# Altium schematic symbol library SCH - MCU - TI - TI MSPM0G110X WCSP-28 YCJ.SchLib: 1 symbol
Pins are listed as number, name and electrical type; pins without a type are passive.

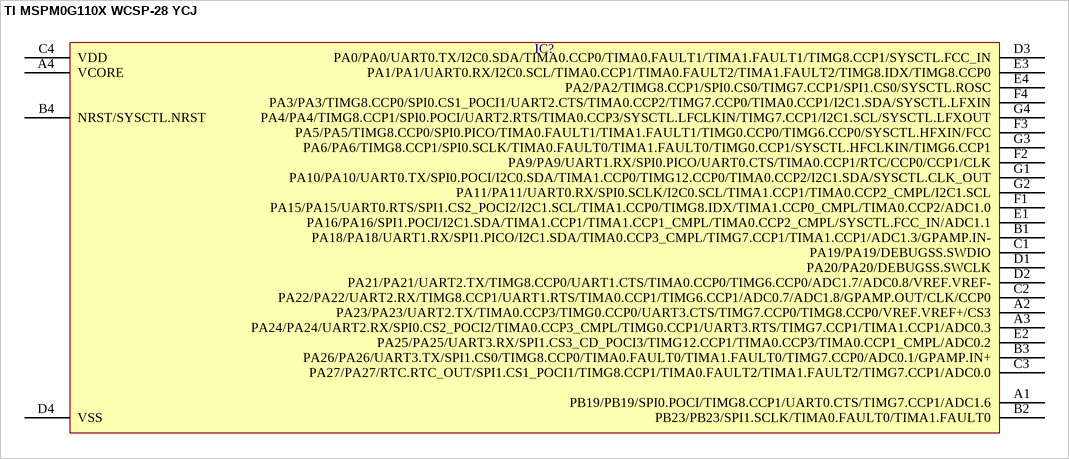
[diagram p0: symbol TI MSPM0G110X WCSP-28 YCJ]

## TI MSPM0G110X WCSP-28 YCJ
designator IC?  (value not drawn)
pins: A1 PB19/PB19/SPI0.POCI/TIMG8.CCP1/UART0.CTS/TIMG7.CCP1/ADC1.6, A2 PA23/PA23/UART2.TX/TIMA0.CCP3/TIMG0.CCP0/UART3.CTS/TIMG7.CCP0/TIMG8.CCP0/VREF.VREF+/CS3, A3 PA24/PA24/UART2.RX/SPI0.CS2_POCI2/TIMA0.CCP3_CMPL/TIMG0.CCP1/UART3.RTS/TIMG7.CCP1/TIMA1.CCP1/ADC0.3, A4 VCORE, B1 PA18/PA18/UART1.RX/SPI1.PICO/I2C1.SDA/TIMA0.CCP3_CMPL/TIMG7.CCP1/TIMA1.CCP1/ADC1.3/GPAMP.IN-, B2 PB23/PB23/SPI1.SCLK/TIMA0.FAULT0/TIMA1.FAULT0, B3 PA26/PA26/UART3.TX/SPI1.CS0/TIMG8.CCP0/TIMA0.FAULT0/TIMA1.FAULT0/TIMG7.CCP0/ADC0.1/GPAMP.IN+, B4 NRST/SYSCTL.NRST, C1 PA19/PA19/DEBUGSS.SWDIO, C2 PA22/PA22/UART2.RX/TIMG8.CCP1/UART1.RTS/TIMA0.CCP1/TIMG6.CCP1/ADC0.7/ADC1.8/GPAMP.OUT/CLK/CCP0, C3 PA27/PA27/RTC.RTC_OUT/SPI1.CS1_POCI1/TIMG8.CCP1/TIMA0.FAULT2/TIMA1.FAULT2/TIMG7.CCP1/ADC0.0, C4 VDD, D1 PA20/PA20/DEBUGSS.SWCLK, D2 PA21/PA21/UART2.TX/TIMG8.CCP0/UART1.CTS/TIMA0.CCP0/TIMG6.CCP0/ADC1.7/ADC0.8/VREF.VREF-, D3 PA0/PA0/UART0.TX/I2C0.SDA/TIMA0.CCP0/TIMA0.FAULT1/TIMA1.FAULT1/TIMG8.CCP1/SYSCTL.FCC_IN, D4 VSS, E1 PA16/PA16/SPI1.POCI/I2C1.SDA/TIMA1.CCP1/TIMA1.CCP1_CMPL/TIMA0.CCP2_CMPL/SYSCTL.FCC_IN/ADC1.1, E2 PA25/PA25/UART3.RX/SPI1.CS3_CD_POCI3/TIMG12.CCP1/TIMA0.CCP3/TIMA0.CCP1_CMPL/ADC0.2, E3 PA1/PA1/UART0.RX/I2C0.SCL/TIMA0.CCP1/TIMA0.FAULT2/TIMA1.FAULT2/TIMG8.IDX/TIMG8.CCP0, E4 PA2/PA2/TIMG8.CCP1/SPI0.CS0/TIMG7.CCP1/SPI1.CS0/SYSCTL.ROSC, F1 PA15/PA15/UART0.RTS/SPI1.CS2_POCI2/I2C1.SCL/TIMA1.CCP0/TIMG8.IDX/TIMA1.CCP0_CMPL/TIMA0.CCP2/ADC1.0, F2 PA9/PA9/UART1.RX/SPI0.PICO/UART0.CTS/TIMA0.CCP1/RTC/CCP0/CCP1/CLK, F3 PA5/PA5/TIMG8.CCP0/SPI0.PICO/TIMA0.FAULT1/TIMA1.FAULT1/TIMG0.CCP0/TIMG6.CCP0/SYSCTL.HFXIN/FCC, F4 PA3/PA3/TIMG8.CCP0/SPI0.CS1_POCI1/UART2.CTS/TIMA0.CCP2/TIMG7.CCP0/TIMA0.CCP1/I2C1.SDA/SYSCTL.LFXIN, G1 PA10/PA10/UART0.TX/SPI0.POCI/I2C0.SDA/TIMA1.CCP0/TIMG12.CCP0/TIMA0.CCP2/I2C1.SDA/SYSCTL.CLK_OUT, G2 PA11/PA11/UART0.RX/SPI0.SCLK/I2C0.SCL/TIMA1.CCP1/TIMA0.CCP2_CMPL/I2C1.SCL, G3 PA6/PA6/TIMG8.CCP1/SPI0.SCLK/TIMA0.FAULT0/TIMA1.FAULT0/TIMG0.CCP1/SYSCTL.HFCLKIN/TIMG6.CCP1, G4 PA4/PA4/TIMG8.CCP1/SPI0.POCI/UART2.RTS/TIMA0.CCP3/SYSCTL.LFCLKIN/TIMG7.CCP1/I2C1.SCL/SYSCTL.LFXOUT